# EAGLE library part DRV8872DDA (library TI_controller)
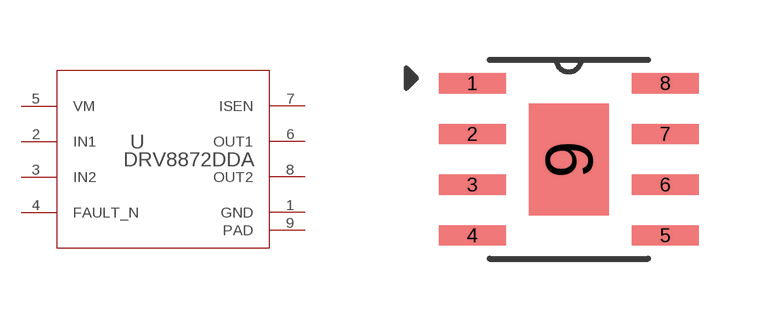
[diagram p2: symbol with the pads of HSOP_8; footprint HSOP_8]

Designator prefix -

## DRV8872DDA1  [HSOP_8]
1  GND  pwr
2  IN1  in
3  IN2  in
4  FAULT_N  oc
5  VM  pwr
6  OUT1  out
7  ISEN  in
8  OUT2  out
9  PAD  pwr

## Footprint HSOP_8 (pad centres in mm)
smd 1.676 x 0.508: 1 -2.413,1.905; 2 -2.413,0.635; 3 -2.413,-0.635; 4 -2.413,-1.905; 5 2.413,-1.905; 6 2.413,-0.635; 7 2.413,0.635; 8 2.413,1.905
smd 2 x 2.8: 9 0,0